# Altium schematic symbol library SL_Switches.SchLib: 4 symbols
Pins are listed as number, name and electrical type; pins without a type are passive.

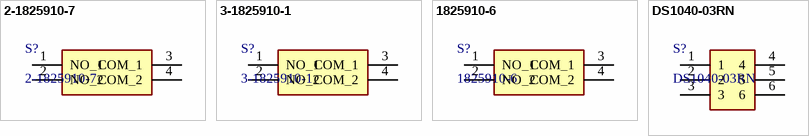
[diagram p0: symbols 2-1825910-7 to DS1040-03RN]

## 2-1825910-7
designator S?
Button; Manufacturer_Name: TE Connectivity; Datasheet Link: https://www.te.com/commerce/DocumentDelivery/DDEController?Action=srchrtrv&DocNm=1308111-1_SWITCHES_CORE_PROGRAM_CATALOG&DocType=Catalog%20Section&DocLang=English&PartCntxt=2-1825910-7&DocFormat=pdf; Height: 13mm; Manufacturer_Part_Number: 2-1825910-7; Mouser Part Number: 506-2-1825910-7; Mouser Price/Stock: https://www.mouser.co.uk/ProductDetail/TE-Connectivity-PB/2-1825910-7?qs=epcAG6di8szpGFLvuwXKeQ%3D%3D; Arrow Part Number: 2-1825910-7; Arrow Price/Stock: https://www.arrow.com/en/products/2-1825910-7/te-connectivity?region=europe
footprint 218259107
pins: 1 NO_1, 2 NO_2, 3 COM_1, 4 COM_2

## 3-1825910-1
designator S?
Button; Manufacturer_Name: TE Connectivity; Datasheet Link: https://www.te.com/commerce/DocumentDelivery/DDEController?Action=srchrtrv&DocNm=1825910&DocType=Customer+Drawing&DocLang=English; Height: 18.8mm; Manufacturer_Part_Number: 3-1825910-1; Arrow Part Number: 3-1825910-1; Arrow Price/Stock: https://www.arrow.com/en/products/3-1825910-1/te-connectivity?region=europe
footprint 318259101
pins: 1 NO_1, 2 NO_2, 3 COM_1, 4 COM_2

## 1825910-6
designator S?
Button; Manufacturer_Name: TE Connectivity; Datasheet Link: https://www.te.com/commerce/DocumentDelivery/DDEController?Action=srchrtrv&DocNm=1308111-1_SWITCHES_CORE_PROGRAM_CATALOG&DocType=Catalog%20Section&DocLang=English&PartCntxt=1825910-6&DocFormat=pdf; Height: 5mm; Manufacturer_Part_Number: 1825910-6; Mouser Part Number: 650-1825910-6; Mouser Price/Stock: https://www.mouser.co.uk/ProductDetail/TE-Connectivity/1825910-6?qs=A6cQTCBcXncisYDS1KbpGA%3D%3D; Arrow Part Number: 1825910-6; Arrow Price/Stock: https://www.arrow.com/en/products/1825910-6/te-connectivity?utm_currency=USD&region=europe
footprint 18259106
pins: 1 NO_1, 2 NO_2, 3 COM_1, 4 COM_2

## DS1040-03RN
designator S?
Switch 3 Pin; Manufacturer_Name: Connfly; Datasheet Link: https://en.connfly.com/static/upload/file/pdf/DS1040.pdf; Height: 5.75mm; Manufacturer_Part_Number: DS1040-03RN
footprint DS104003RN
pins: 1, 2, 3, 4, 5, 6